# Altium footprint library Proyecto_TD3.PcbLib: 23 footprints (part 1 of 2)
Each footprint in its own frame and in the unit in brackets; x right, y up, seen from the top. Pads: shape width x height; smd on the part's side, far side on the other; paste and mask are expansions set on the pad; w line width, h text height; cw(c..) or ccw(c..) is an arc to the next point about the centre after c.
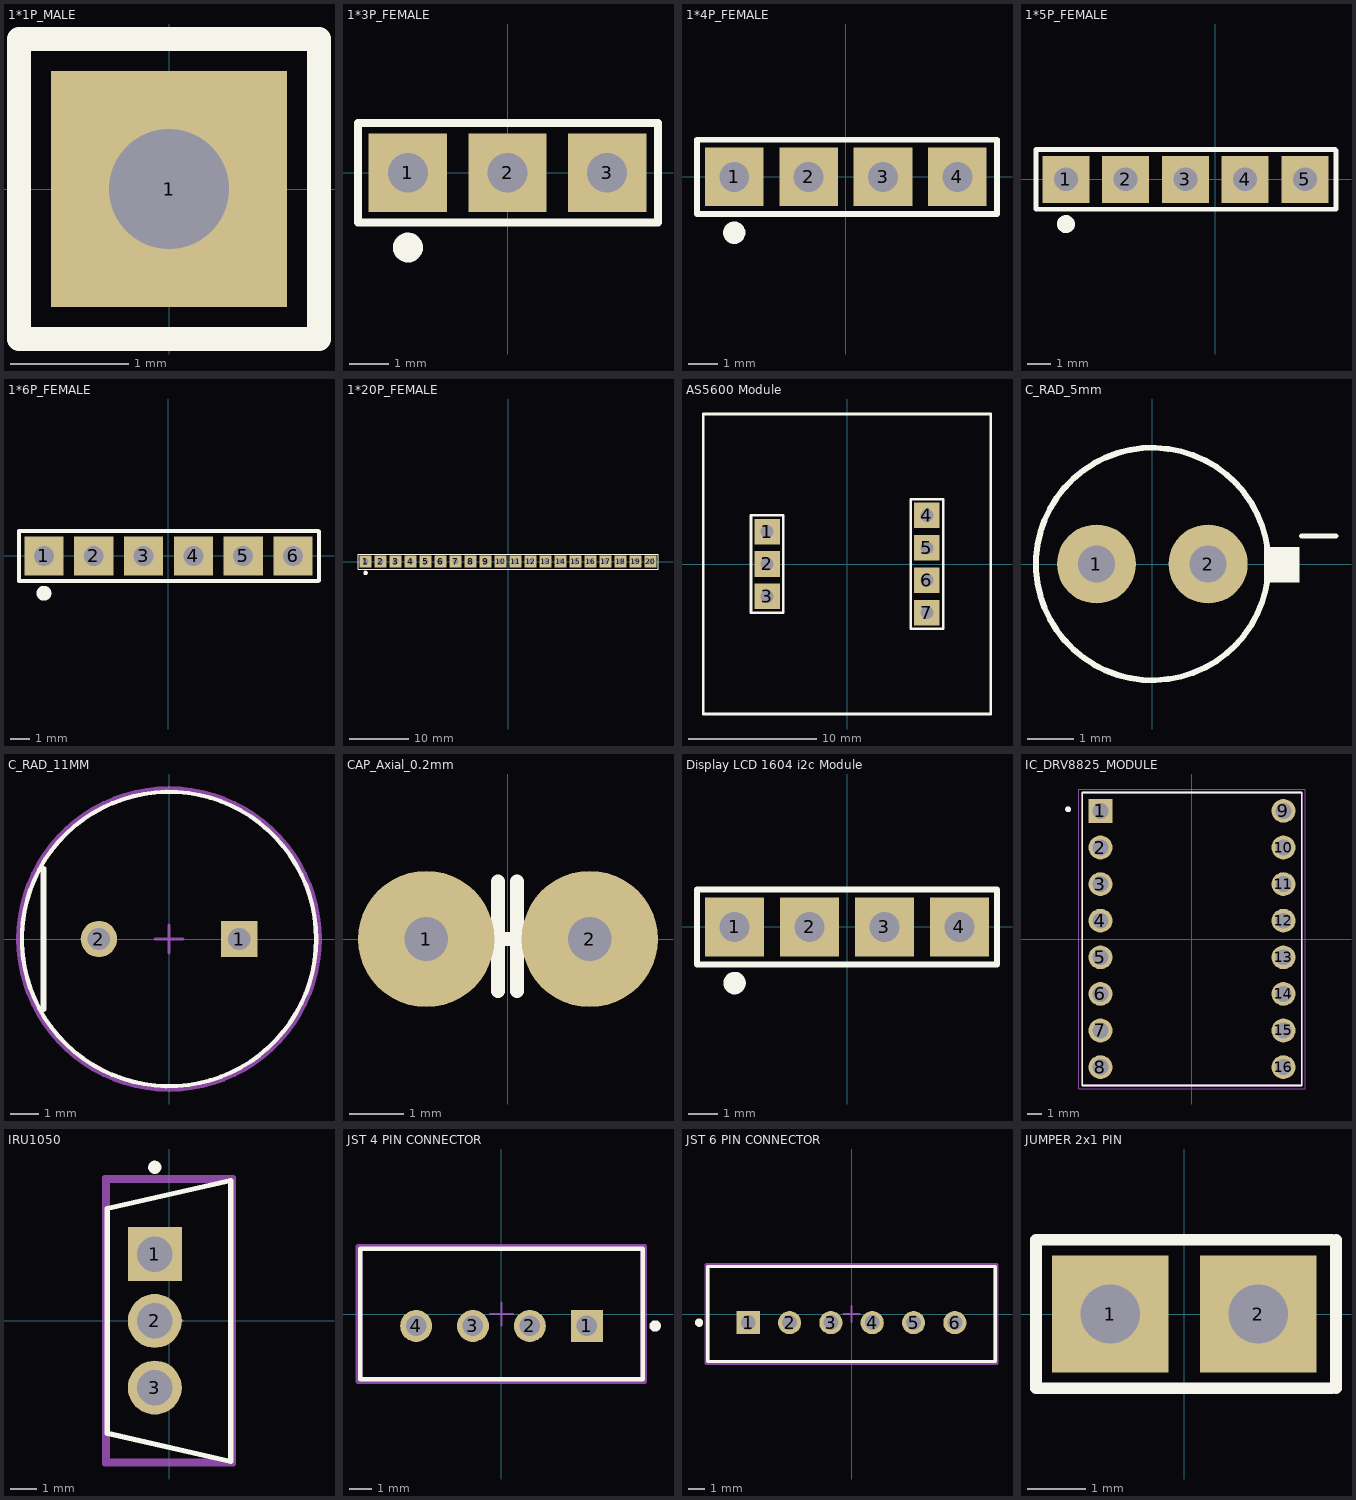
[diagram p0: the footprints below, top view; thin cyan lines are the x and y axes]

## 1*1P_MALE [mm]
pads (1):
  rect 2x2 hole 1.016: 1(0,0)
Top Overlay:
  lines w0.2: -1.27,-1.27 1.27,-1.27 1.27,-0.635 1.27,0.635 1.27,1.27 -1.27,1.27 -1.27,-1.27
3D body "User Library-Header_Male_1Pin.STEP": height 8.54, standoff -3, extent -1.27,-1.194 1.27,1.296

## 1*3P_FEMALE [mm]
pads (3):
  rect 2x2 hole 1.016: 1(-2.54,0) 2(0,0) 3(2.54,0)
Top Overlay:
  circle w0.381: c-2.538,-1.905 r0.191
  lines w0.2: -3.81,-1.27 -3.81,1.27 3.835,1.27 3.835,0.635 3.835,-0.635 3.835,-1.27 -3.81,-1.27
3D body "pin_header_female_2.54mm_0.1in_1x2.STEP": height 8.89, standoff -8.75, extent -1.27,-1.27 3.81,1.27
3D body "pin_header_female_2.54mm_0.1in_1x2.STEP": height 8.89, standoff -8.75, extent -3.81,-1.27 1.27,1.27

## 1*4P_FEMALE [mm]
pads (4):
  rect 2x2 hole 1.016: 1(-3.81,0) 2(-1.27,0) 3(1.27,0) 4(3.81,0)
Top Overlay:
  circle w0.381: c-3.808,-1.905 r0.191
  lines w0.2: 5.131,-1.27 -5.08,-1.27 -5.08,1.27 5.156,1.27 ; 5.16,-1.27 5.16,-0.635 5.16,0.635 5.16,1.27
3D body "pin_header_female_2.54mm_0.1in_1x2.STEP": height 8.89, standoff -8.75, extent 0,-1.27 5.08,1.27
3D body "pin_header_female_2.54mm_0.1in_1x2.STEP": height 8.89, standoff -8.75, extent -5.08,-1.27 0,1.27

## 1*5P_FEMALE [mm]
pads (5):
  rect 2x2 hole 1.016: 1(-6.35,0) 2(-3.81,0) 3(-1.27,0) 4(1.27,0) 5(3.81,0)
Top Overlay:
  circle w0.381: c-6.348,-1.905 r0.191
  lines w0.2: -7.62,-1.27 -7.62,1.27 5.105,1.27 5.135,1.241 5.135,0.635 5.135,-0.635 5.135,-1.266 5.131,-1.27 -7.62,-1.27
3D body "User Library-1x4 TH Pitch 2_54mm.STEP": height 9.2, standoff -3.5, extent -5.131,-1.219 5.029,1.321
3D body "User Library-1x4 TH Pitch 2_54mm.STEP": height 9.2, standoff -3.5, extent -7.671,-1.27 2.489,1.27

## 1*6P_FEMALE [mm]
pads (6):
  rect 2x2 hole 1.016: 1(-6.35,0) 2(-3.81,0) 3(-1.27,0) 4(1.27,0) 5(3.81,0) 6(6.35,0)
Top Overlay:
  circle w0.381: c-6.348,-1.905 r0.191
  lines w0.2: -7.62,-1.27 7.62,-1.27 ; -7.62,-1.266 -7.62,1.27 7.62,1.27 ; 7.675,-1.266 7.675,-0.635 7.675,0.635 7.675,1.241
3D body "User Library-1x4 TH Pitch 2_54mm.STEP": height 9.2, standoff -3.5, extent -2.591,-1.27 7.569,1.27
3D body "User Library-1x4 TH Pitch 2_54mm.STEP": height 9.2, standoff -3.5, extent -7.671,-1.27 2.489,1.27

## 1*20P_FEMALE [mm]
pads (20):
  rect 2x2 hole 1.016: 1(-24.13,0) 2(-21.59,0) 3(-19.05,0) 4(-16.51,0) 5(-13.97,0) 6(-11.43,0) 7(-8.89,0) 8(-6.35,0) 9(-3.81,0) 10(-1.27,0) 11(1.27,0) 12(3.81,0) 13(6.35,0) 14(8.89,0) 15(11.43,0) 16(13.97,0) 17(16.51,0) 18(19.05,0) 19(21.59,0) 20(24.13,0)
Top Overlay:
  circle w0.381: c-24.128,-1.905 r0.191
  lines w0.2: -10.16,-1.27 25.4,-1.27 25.4,-0.635 25.4,0.635 25.4,1.27 -10.16,1.27 ; 10.16,-1.27 -25.4,-1.27 -25.4,1.27 10.16,1.27
3D body "User Library-zl262-10s_p2-54_l25-9_w2-54_h8-5.step": height 8.5, standoff -3, extent -25.65,-1.27 0.25,1.27
3D body "User Library-zl262-10s_p2-54_l25-9_w2-54_h8-5.step": height 8.5, standoff -3, extent -0.25,-1.27 25.65,1.27

## AS5600 Module [mm]
pads (7):
  rect 2x2 hole 1.016: 1(-6.25,2.54) 2(-6.25,0) 3(-6.25,-2.54) 4(6.25,3.81) 5(6.25,1.27) 6(6.25,-1.27) 7(6.25,-3.81)
Top Overlay:
  lines w0.2: 7.517,5.08 6.806,5.08 5.536,5.08 4.977,5.08 4.977,-5.08 7.542,-5.08 7.542,5.08 ; -11.25,-11.75 -11.25,11.75 11.25,11.75 11.25,-11.75 -11.25,-11.75 ; -7.52,-3.81 -7.52,3.81 -6.885,3.81 -5.615,3.81 -4.98,3.81 -4.98,-3.81 -7.52,-3.81

## C_RAD_5mm [mm]
pads (2):
  round 1.7 hole 0.8: 1(-1.2,0) 2(1.2,0)
Top Overlay:
  circle w0.127: c0,0 r2.5
  rectangle: 2.4,-0.4 3.162,0.362
  lines w0.102: 3.2,0.6 3.95,0.6
3D body "1815069.stp": height 14, standoff -17, extent -2.952,-2.952 3.048,3.048

## C_RAD_11MM [mm]
pads (2):
  rect 1.3x1.3 hole 0.8 paste-2539.97 mask+0: 1(2.5,0)
  round 1.3 hole 0.8 paste-2539.97 mask+0: 2(-2.5,0)
Top Overlay:
  circle w0.15: c0,0 r5.25
  lines w0.2: -4.475,-2.5 -4.475,2.5
Top Assembly:
  text ".Designator" at 0,0.188 h1
Top 3D Body:
  circle w0.15: c0,0 r5.25
Top Courtyard:
  lines w0.2: -5.35,0 cw(c0,0) 5.35,0 cw(c0,0) -5.35,0
Top Component Center:
  lines w0.1: -0.5,0 0.5,0 ; 0,-0.5 0,0.5
3D body "Cap_Panasonic_EEUFK1C222L_eec.STEP": height 0.25, standoff 0, extent -5.35,-5.35 5.35,5.35

## CAP_Axial_0.2mm [mm]
pads (2):
  round 2.5 hole 0.8: 1(-1.5,0) 2(1.5,0)
Top Overlay:
  lines w0.256: -0.3,0 0.25,0 ; -0.182,-0.949 -0.182,1.051 ; 0.166,-0.949 0.166,1.051
3D body "10pF Ceramic Disc 2.SLDPRT": height 8.35, standoff -5.68, extent -1.847,-1.25 2.845,1.25

## Display LCD 1604 i2c Module [mm]
pads (4):
  rect 2x2 hole 1.016: 1(-3.81,0) 2(-1.27,0) 3(1.27,0) 4(3.81,0)
Top Overlay:
  circle w0.381: c-3.808,-1.905 r0.191
  lines w0.2: -5.08,-1.27 5.08,-1.27 5.08,1.27 -5.08,1.27 -5.08,-1.27
3D body "User Library-Header_Male_4Pin.STEP": height 8.54, standoff -3, extent -5.08,-1.245 5.08,1.245

## IC_DRV8825_MODULE [mm]
pads (16):
  rect 1.65x1.65 hole 1.1: 1(-6.35,8.89)
  round 1.65 hole 1.1: 2(-6.35,6.35) 3(-6.35,3.81) 4(-6.35,1.27) 5(-6.35,-1.27) 6(-6.35,-3.81) 7(-6.35,-6.35) 8(-6.35,-8.89) 9(6.35,8.89) 10(6.35,6.35) 11(6.35,3.81) 12(6.35,1.27) 13(6.35,-1.27) 14(6.35,-3.81) 15(6.35,-6.35) 16(6.35,-8.89)
Top Overlay:
  circle w0.2: c-8.6,9 r0.1
  lines w0.127: -7.62,-10.16 -7.62,10.16 7.62,10.16 7.62,-10.16 -7.62,-10.16
Top 3D Body:
  circle w0.2: c-8.6,9 r0.1
  lines w0.127: -7.62,-10.16 7.62,-10.16 7.62,10.16 -7.62,10.16 -7.62,-10.16
Top Courtyard:
  lines w0.05: -7.87,-10.41 7.87,-10.41 7.87,10.41 -7.87,10.41 -7.87,-10.41
3D body "User Library-zl262-8s_p2-54_l20-82_w2-54_h8-5.step": height 8.5, standoff -3, extent 5.08,-10.41 7.62,10.41
3D body "User Library-zl262-8s_p2-54_l20-82_w2-54_h8-5.step": height 8.5, standoff -3, extent -7.62,-10.41 -5.08,10.41
3D body "DRV8825 STEPPER MOTOR DRIVER CARRIER--3DModel-STEP-1.STEP": height 15.04, standoff 3.15, extent -7.62,-10.16 7.62,10.16

## IRU1050 [mm]
pads (3):
  rect 2.05x2.05 hole 1.35 paste-2539.97 mask+0: 1(-0.54,2.535)
  round 2.05 hole 1.35 paste-2539.97 mask+0: 2(-0.54,0) 3(-0.54,-2.535)
Top Overlay:
  circle w0.25: c-0.54,5.835 r0.125
  lines w0.2: 2.35,-5.335 -2.35,-4.268 -2.35,4.268 2.35,5.335 ; 2.35,-5.285 2.35,5.285
Top Assembly:
  lines w0.2: -2.45,-5.435 2.45,-5.435 2.45,5.435 -2.45,5.435 -2.45,-5.435
  text ".Designator" at 0,-0.001 h1
Top 3D Body:
  lines w0.2: -2.35,-5.335 2.35,-5.335 2.35,5.335 -2.35,5.335 -2.35,-5.335
Top Courtyard:
  lines w0.2: -2.45,-5.435 2.45,-5.435 2.45,5.435 -2.45,5.435 -2.45,-5.435
Top Component Center:
  lines w0.1: -0.5,0 0.5,0 ; 0,-0.5 0,0.5
3D body "IC_ON_Semiconductor_LM7812CT_eec.STEP": height 0.25, standoff 0, extent -2.45,-5.435 2.45,5.435

## JST 4 PIN CONNECTOR [mm] "JST 4 PIN CONNECTOR"
pads (4):
  rect 1.4x1.4 hole 0.9 paste-2539.97 mask+0: 1(3.75,-0.525)
  round 1.4 hole 0.9 paste-2539.97 mask+0: 2(1.25,-0.525) 3(-1.25,-0.525) 4(-3.75,-0.525)
Top Overlay:
  circle w0.25: c6.75,-0.525 r0.125
  lines w0.2: -6.2,-2.875 -6.2,2.875 6.2,2.875 6.2,-2.875 -6.2,-2.875
Top Assembly:
  lines w0.2: -6.3,-2.975 -6.3,2.975 6.3,2.975 6.3,-2.975 -6.3,-2.975
  text ".Designator" at 0,0.188 h1
Top 3D Body:
  lines w0.2: -6.2,-2.875 -6.2,2.875 6.2,2.875 6.2,-2.875 -6.2,-2.875
Top Courtyard:
  lines w0.2: -6.3,-2.975 -6.3,2.975 6.3,2.975 6.3,-2.975 -6.3,-2.975
Top Component Center:
  lines w0.1: -0.5,0 0.5,0 ; 0,-0.5 0,0.5
3D body "Conn_JST_B4B-XH-A_LF_SN_eec.STEP": height 0.25, standoff 0, extent -6.3,-2.975 6.3,2.975

## JST 6 PIN CONNECTOR [mm]
pads (6):
  rect 1.4x1.4 hole 0.9 paste-2539.97 mask+0: 1(-6.25,-0.525)
  round 1.4 hole 0.9 paste-2539.97 mask+0: 2(-3.75,-0.525) 3(-1.25,-0.525) 4(1.25,-0.525) 5(3.75,-0.525) 6(6.25,-0.525)
Top Overlay:
  circle w0.25: c-9.225,-0.525 r0.125
  lines w0.2: -8.7,-2.875 -8.7,2.875 8.7,2.875 8.7,-2.875 -8.7,-2.875
Top Assembly:
  lines w0.2: -8.8,-2.975 -8.8,2.975 8.8,2.975 8.8,-2.975 -8.8,-2.975
  text ".Designator" at 0,0.188 h1
Top 3D Body:
  lines w0.2: -8.7,-2.875 -8.7,2.875 8.7,2.875 8.7,-2.875 -8.7,-2.875
Top Courtyard:
  lines w0.2: -8.8,-2.975 -8.8,2.975 8.8,2.975 8.8,-2.975 -8.8,-2.975
Top Component Center:
  lines w0.1: -0.5,0 0.5,0 ; 0,-0.5 0,0.5
3D body "Conn_JST_B6B-XH-A_LF_SN_eec.STEP": height 0.25, standoff 0, extent -8.8,-2.975 8.8,2.975

## JUMPER 2x1 PIN [mm]
pads (2):
  rect 2x2 hole 1.016: 1(-1.27,0) 2(1.27,0)
Top Overlay:
  lines w0.2: 2.53,-1.27 -2.54,-1.27 -2.54,1.27 2.53,1.27 ; 2.6,-1.27 2.6,-0.635 2.6,0.635 2.6,1.27
3D body "User Library-Header_Male_1Pin.STEP": height 8.54, standoff -3, extent 0,-1.194 2.54,1.296
3D body "User Library-Header_Male_1Pin.STEP": height 8.54, standoff -3, extent -2.54,-1.194 0,1.296